# EAGLE library part 634008137221 (library WR-MJ)
WR-MJ Cat 3 Modular Jacks – SMT Characteristics Shieldingless and Shielded with EMI-Spring option Optional LEDs in various sequences Vertical and Horizontal orientation Tape & Reel packaging for pick-and-place assembly Properties PoE++ Compatible up to 100W (IEEE 802.3bt) UL and cULus-Certified UL94-V0 reflow-compatible insulator material Ethernet Category 3 – Category 5 under conditions Applications Networks Internet of Things Smart Buildings <https://www.we-online.com/components/media/o60696v209%20Multi-WR-MJSM-634008149821.jpg> Details see: www.we-online.com/en/components/products/WR_MJ_MODULAR_JACKS_SMT <www.we-online.com/catalog/WR_MJ_MODULAR_JACKS_SMT/?utm_source=eagle_model&utm_medium=description_link&utm_campaign=eisos_eagle> Updated by Yingchun Shan 2020-01-03 2020(C) Würth Elektronik
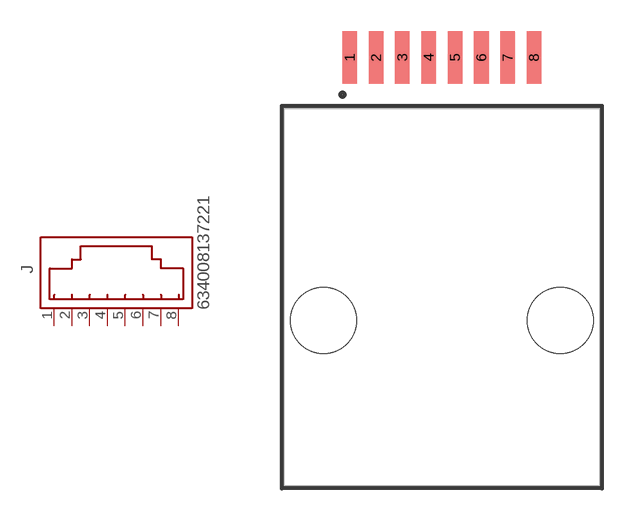
[diagram p39: symbol with the pads of 634008137221; footprint 634008137221]

Designator prefix J

## 634008137221 (APPLICATION-SYSTEM: CAT 3; DATASHEET-URL: https://www.we-online.com/redexpert/spec/634008137221?ae; EMI: No; LED: /; MOUNT: SMT; PART-NUMBER: 634008137221; SIZE: Horizontal; TAB: Down; VALUE: 634008137221; XPXC: 8P8C)  [634008137221]
1  8  pas
2  7  pas
3  6  pas
4  5  pas
5  4  pas
6  3  pas
7  2  pas
8  1  pas

## Footprint 634008137221 (pad centres in mm)
WR-MJ Modular Jack SMT Horizontal Plastic 8P8C Tab Down,8 Pins
smd 0.7 x 2.54: 1 -4.445,11.57; 2 -3.175,11.57; 3 -1.905,11.57; 4 -0.635,11.57; 5 0.635,11.57; 6 1.905,11.57; 7 3.175,11.57; 8 4.445,11.57
hole 3.17 at -5.715,-1.13
hole 3.17 at 5.715,-1.13